# Altium schematic symbol library kmilo17pet-Maxim_Sensors.SchLib: 1172 symbols (part 44 of 61)
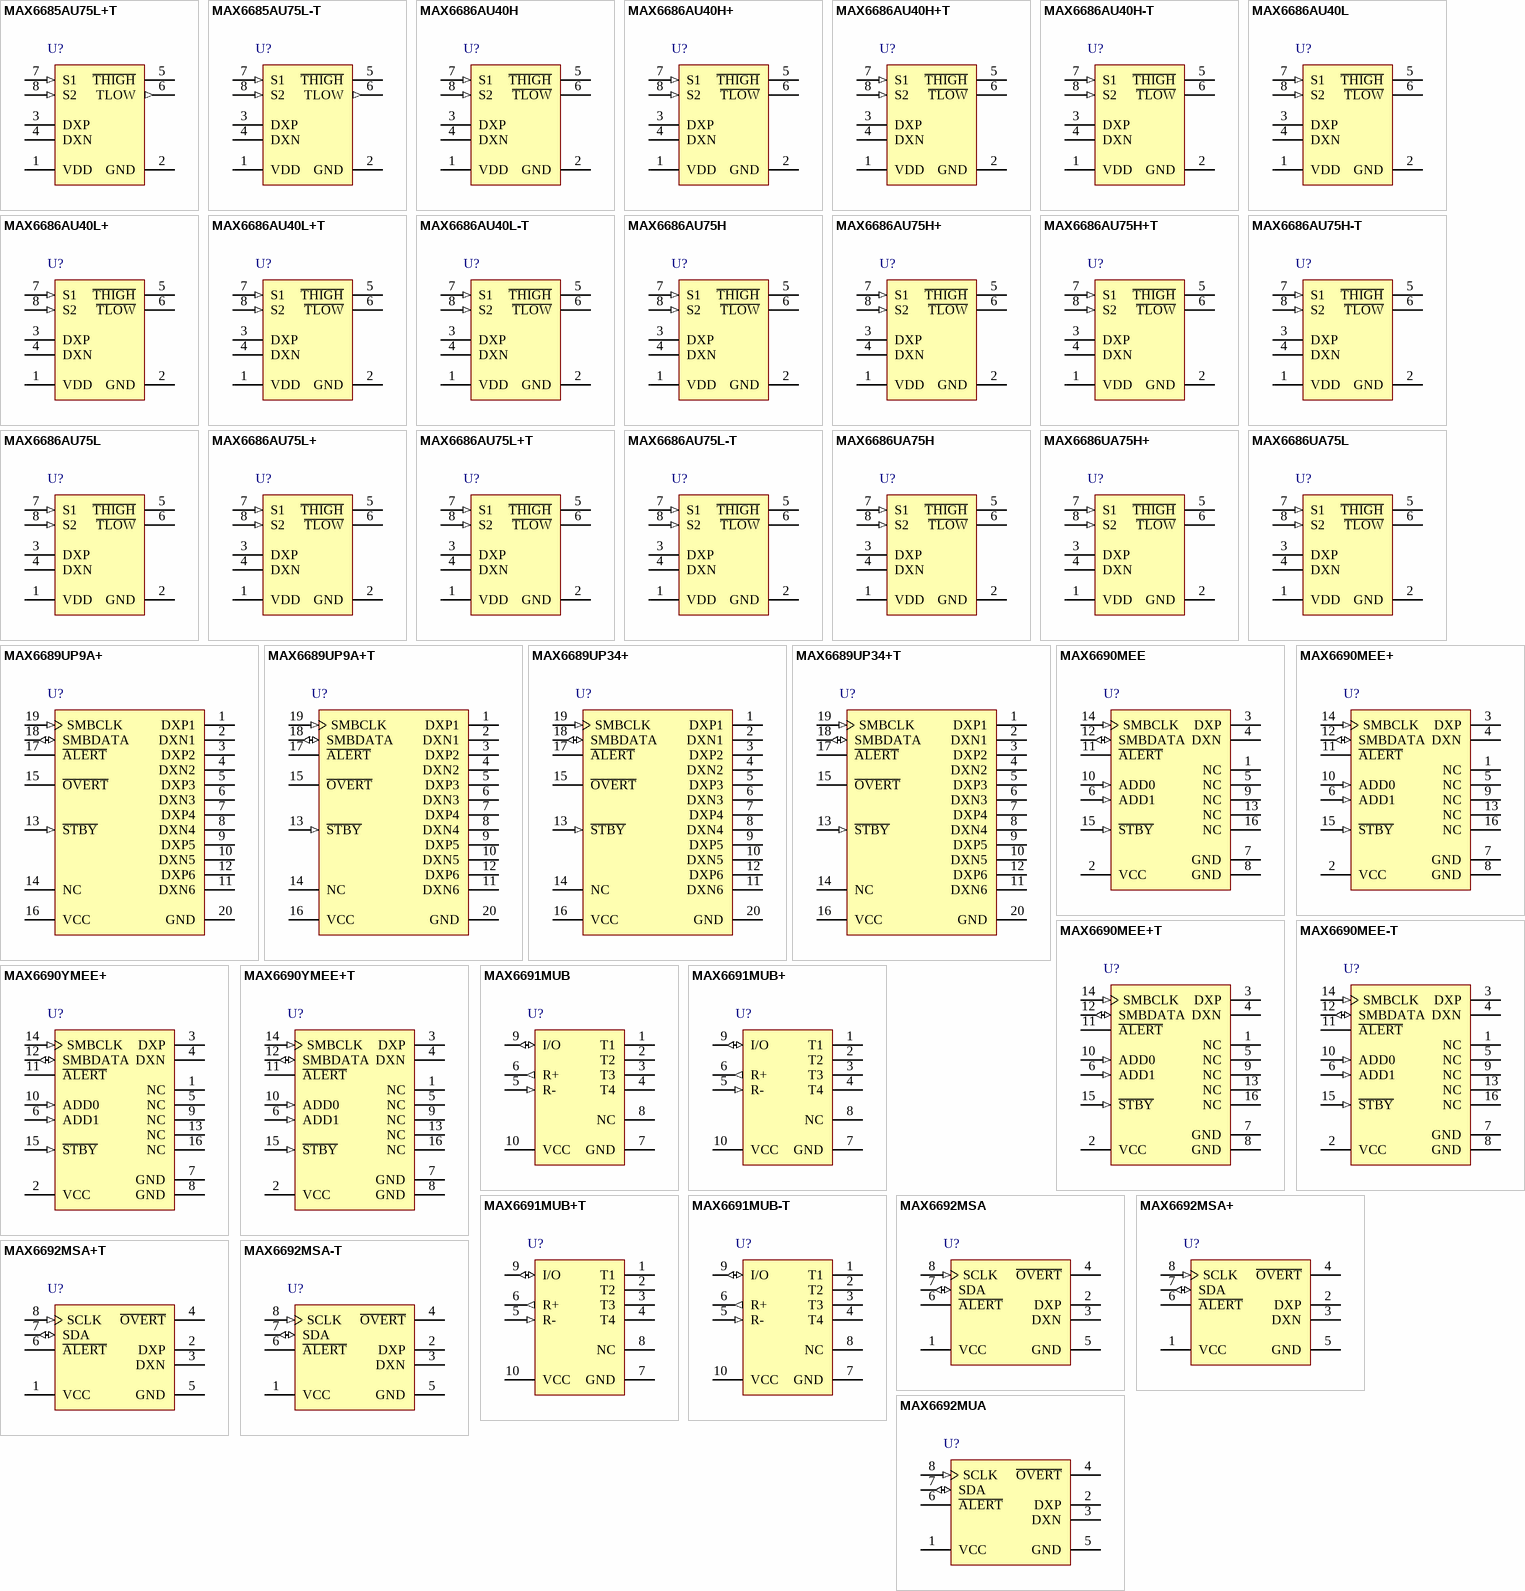
[diagram p76: symbols MAX6685AU75L+T to MAX6692MUA]

## MAX6689UP34+T
designator U?
Seven-Channel Temperature Monitor, 11 Bits Temperature Resolution, -40 to 125 degC, 20-Pin SOP (U20+2), Pb-Free, Tape and Reel; Generic Part Number: MAX6689; PartNumber: MAX6689UP34+T; Alarm Output: Alert, Overt; Functions: Dual Temperature Alarms, Multi-Channel Temperature Monitor ,Remote & Local Sensor; Interface: 2-Wire/I2C/SMBus; Parasite Pwr.: No; DatasheetVersion: Rev. 1; PackageVersion: Rev. L, 07/2010; PackageReference: U20+2; PackageDescription: 20-Pin Thin Shrink Small-Outline Package, Body 4.4 x 6.5 mm, Pitch 0.65 mm; Supplier 1: Digi-Key; Supplier Part Number 1: MAX6689UP34+T-ND; Supplier 2: Mouser; Supplier Part Number 2: 700-MAX6689UP34+T; Packing: Tape and Reel; Mounting Technology: Surface Mount; Code_JEDEC: MO-153; ComponentLink1Description: Manufacturer URL; ComponentLink1URL: http://www.maximintegrated.com/; ComponentLink2Description: Datasheet; ComponentLink2URL: http://datasheets.maximintegrated.com/en/ds/MAX6689.pdf; ComponentLink3Description: Package Specification; ComponentLink3URL: http://pdfserv.maximintegrated.com/package_dwgs/21-0066.PDF
footprint MAXM-U20+2_N (SOP, 20-Leads, Body 6.5x4.4mm, Pitch 0.65mm, IPC Medium Density)
footprint MAXM-U20+2_L (SOP, 20-Leads, Body 6.5x4.4mm, Pitch 0.65mm, IPC High Density)
footprint MAXM-U20+2_M (SOP, 20-Leads, Body 6.5x4.4mm, Pitch 0.65mm, IPC Low Density)
pins: 1 DXP1 "Combined Current Source and A/D Positive Input for Channel 1 Remote Diode. Connect to the anode of a remote-diode-connected temperature-sensing transistor. Leave floating or connect to VCC if no remote diode is used. Place a (See Datasheet)", 2 DXN1 "Cathode Input for Channel 1 Remote Diode. Connect the cathode of the channel 1 remote-diode-connected transistor to DXN1. Internally connected to GND.", 3 DXP2 "Combined Current Source and A/D Positive Input for Channel 2 Remote Diode. Connect to the anode of a remote-diode-connected temperature-sensing transistor. Leave floating or connect to VCC if no remote diode is used. Place a (See Datasheet)", 4 DXN2 "Cathode Input for Channel 2 Remote Diode. Connect the cathode of the channel 2 remote-diode-connected transistor to DXN2.", 5 DXP3 "Combined Current Source and A/D Positive Input for Channel 3 Remote Diode. Connect to the anode of a remote-diode-connected temperature-sensing transistor. Leave floating or connect to VCC if no remote diode is used. Place a (See Datasheet)", 6 DXN3 "Cathode Input for Channel 3 Remote Diode. Connect the cathode of the channel 3 remote-diode-connected transistor to DXN3.", 7 DXP4 "Combined Current Source and A/D Positive Input for Channel 4 Remote Diode. Connect to the anode of a remote-diode-connected temperature-sensing transistor. Leave floating or connect to VCC if no remote diode is used. Place a (See Datasheet)", 8 DXN4 "Cathode Input for Channel 4 Remote Diode. Connect the cathode of the channel 4 remote-diode-connected transistor to DXN4.", 9 DXP5 "Combined Current Source and A/D Positive Input for Channel 5 Remote Diode. Connect to the anode of a remote-diode-connected temperature-sensing transistor. Leave floating or connect to VCC if no remote diode is used. Place a (See Datasheet)", 10 DXN5 "Cathode Input for Channel 5 Remote Diode. Connect the cathode of the channel 5 remote-diode-connected transistor to DXN5.", 11 DXN6 "Cathode Input for Channel 6 Remote Diode. Connect the cathode of the channel 6 remote-diode-connected transistor to DXN6.", 12 DXP6 "Combined Current Source and A/D Positive Input for Channel 6 Remote Diode. Connect to the anode of a remote-diode-connected temperature-sensing transistor. Leave floating or connect to VCC if no remote diode is used. Place a (See Datasheet)", 13 ~{STBY} (in) "Active-Low Standby Input. Drive S\T\B\Y\ logic-low to place the MAX6636 in standby mode, or logic-high for operate mode. Temperature and threshold data are retained in standby mode.", 14 NC "No Connection. Must be connected to ground.", 15 ~{OVERT} (oc) "Overtemperature Active-Low, Open-Drain Output. O\V\E\R\T\ asserts low when the temperature of channels 1, 4, 5, and 6 exceeds the programmed threshold limit.", 16 VCC (power) "Supply Voltage Input. Bypass to GND with a 0.1µF capacitor.", 17 ~{ALERT} (oc) "SMBus Alert (Interrupt), Active-Low, Open-Drain Output. A\L\E\R\T\ asserts low when the temperature of any channel exceeds the programmed A\L\E\R\T\ threshold.", 18 SMBDATA (io) "SMBus Serial-Data Input/Output. Connect to a pullup resistor.", 19 SMBCLK (in) "SMBus Serial-Clock Input. Connect to a pullup resistor.", 20 GND (power) "Ground"

## MAX6690MEE
designator U?
2 degC Accurate Remote / Local Temperature Sensor with SMBus Serial Interface, 11 Bits Temperature Resolution, -55 to 125 degC, 16-Pin SOP (E16-1); Generic Part Number: MAX6690; PartNumber: MAX6690MEE; Alarm Output: Alert; Functions: Remote & Local Sensor; Interface: 2-Wire/I2C/SMBus; Multi Droppable: Yes; Parasite Pwr.: No; DatasheetVersion: Rev. 2; PackageVersion: Rev. K, 04/2012; PackageReference: E16-1; PackageDescription: 16-Pin Quarter Small-Outline Package (E16-1), Body 4.90 x 3.89 mm, Pitch 0.635 mm; Supplier 1: Mouser; Supplier Part Number 1: N/A; Mounting Technology: Surface Mount; Code_JEDEC: MO137; ComponentLink1Description: Manufacturer URL; ComponentLink1URL: http://www.maximintegrated.com/; ComponentLink2Description: Datasheet; ComponentLink2URL: http://datasheets.maximintegrated.com/en/ds/MAX6690.pdf; ComponentLink3Description: Package Specification; ComponentLink3URL: http://pdfserv.maximintegrated.com/package_dwgs/21-0055.PDF
footprint MAXM-E16-1_N (SOP, 16-Leads, Body 4.9x3.89mm, Pitch 0.635mm, IPC Medium Density)
footprint MAXM-E16-1_L (SOP, 16-Leads, Body 4.9x3.89mm, Pitch 0.635mm, IPC High Density)
footprint MAXM-E16-1_M (SOP, 16-Leads, Body 4.9x3.89mm, Pitch 0.635mm, IPC Low Density)
pins: 1 NC "No Connection. Not internally connected. May be used for PC board trace routing.", 2 VCC (power) "Supply Voltage Input. +3.0V to +5.5V. Bypass to GND with a 0.1uF capacitor. A 200ohm series resistor is recommended but not required for additional noise filtering.", 3 DXP "Combined Current Source and ADC Positive Input for Remote-Junction Channel. If a remotesensing junction is not used, connect DXP to DXN.", 4 DXN "Combined Current Sink and ADC Negative Input. DXN is internally biased to a diode voltage above ground.", 5 NC "No Connection. Not internally connected. May be used for PC board trace routing.", 6 ADD1 (in) "SMBus Slave Address Select Input. ADD0 and ADD1 are sampled upon power-up.", 7 GND (power) "Ground", 8 GND (power) "Ground", 9 NC "No Connection. Not internally connected. May be used for PC board trace routing.", 10 ADD0 (in) "SMBus Slave Address Select Input. ADD0 and ADD1 are sampled upon power-up.", 11 ~{ALERT} (oc) "SMBus Alert (Interrupt) Output. Open drain.", 12 SMBDATA (io) "SMBus Serial-Data Input/Output. Open drain.", 13 NC "No Connection. Not internally connected. May be used for PC board trace routing.", 14 SMBCLK (in) "SMBus Serial-Clock Input", 15 ~{STBY} (in) "Hardware Standby Input. Temperature and comparison threshold data are retained in standby mode. Low = standby mode, high = operating mode.", 16 NC "No Connection. Not internally connected. May be used for PC board trace routing."

## MAX6690MEE+
designator U?
2 degC Accurate Remote / Local Temperature Sensor with SMBus Serial Interface, 11 Bits Temperature Resolution, -55 to 125 degC, 16-Pin SOP (E16+1), Pb-Free; Generic Part Number: MAX6690; PartNumber: MAX6690MEE+; Alarm Output: Alert; Functions: Remote & Local Sensor; Interface: 2-Wire/I2C/SMBus; Multi Droppable: Yes; Parasite Pwr.: No; DatasheetVersion: Rev. 2; PackageVersion: Rev. K, 04/2012; PackageReference: E16+1; PackageDescription: 16-Pin Quarter Small-Outline Package (E16+1), Body 4.90 x 3.89 mm, Pitch 0.635 mm; Supplier 1: Digi-Key; Supplier Part Number 1: MAX6690MEE+-ND; Supplier 2: Mouser; Supplier Part Number 2: 700-MAX6690MEE; Mounting Technology: Surface Mount; Code_JEDEC: MO137; ComponentLink1Description: Manufacturer URL; ComponentLink1URL: http://www.maximintegrated.com/; ComponentLink2Description: Datasheet; ComponentLink2URL: http://datasheets.maximintegrated.com/en/ds/MAX6690.pdf; ComponentLink3Description: Package Specification; ComponentLink3URL: http://pdfserv.maximintegrated.com/package_dwgs/21-0055.PDF
footprint MAXM-E16+1_N (SOP, 16-Leads, Body 4.9x3.89mm, Pitch 0.635mm, IPC Medium Density)
footprint MAXM-E16+1_L (SOP, 16-Leads, Body 4.9x3.89mm, Pitch 0.635mm, IPC High Density)
footprint MAXM-E16+1_M (SOP, 16-Leads, Body 4.9x3.89mm, Pitch 0.635mm, IPC Low Density)
pins: 1 NC "No Connection. Not internally connected. May be used for PC board trace routing.", 2 VCC (power) "Supply Voltage Input. +3.0V to +5.5V. Bypass to GND with a 0.1uF capacitor. A 200ohm series resistor is recommended but not required for additional noise filtering.", 3 DXP "Combined Current Source and ADC Positive Input for Remote-Junction Channel. If a remotesensing junction is not used, connect DXP to DXN.", 4 DXN "Combined Current Sink and ADC Negative Input. DXN is internally biased to a diode voltage above ground.", 5 NC "No Connection. Not internally connected. May be used for PC board trace routing.", 6 ADD1 (in) "SMBus Slave Address Select Input. ADD0 and ADD1 are sampled upon power-up.", 7 GND (power) "Ground", 8 GND (power) "Ground", 9 NC "No Connection. Not internally connected. May be used for PC board trace routing.", 10 ADD0 (in) "SMBus Slave Address Select Input. ADD0 and ADD1 are sampled upon power-up.", 11 ~{ALERT} (oc) "SMBus Alert (Interrupt) Output. Open drain.", 12 SMBDATA (io) "SMBus Serial-Data Input/Output. Open drain.", 13 NC "No Connection. Not internally connected. May be used for PC board trace routing.", 14 SMBCLK (in) "SMBus Serial-Clock Input", 15 ~{STBY} (in) "Hardware Standby Input. Temperature and comparison threshold data are retained in standby mode. Low = standby mode, high = operating mode.", 16 NC "No Connection. Not internally connected. May be used for PC board trace routing."

## MAX6690MEE+T
designator U?
2 degC Accurate Remote / Local Temperature Sensor with SMBus Serial Interface, 11 Bits Temperature Resolution, -55 to 125 degC, 16-Pin SOP (E16+1), Pb-Free, Tape and Reel; Generic Part Number: MAX6690; PartNumber: MAX6690MEE+T; Alarm Output: Alert; Functions: Remote & Local Sensor; Interface: 2-Wire/I2C/SMBus; Multi Droppable: Yes; Parasite Pwr.: No; DatasheetVersion: Rev. 2; PackageVersion: Rev. K, 04/2012; PackageReference: E16+1; PackageDescription: 16-Pin Quarter Small-Outline Package (E16+1), Body 4.90 x 3.89 mm, Pitch 0.635 mm; Supplier 1: Digi-Key; Supplier Part Number 1: MAX6690MEE+TTR-ND; Supplier 2: Digi-Key; Supplier Part Number 2: MAX6690MEE+TCT-ND; Supplier 3: Digi-Key; Supplier Part Number 3: MAX6690MEE+TDKR-ND; Supplier 4: Mouser; Supplier Part Number 4: 700-MAX6690MEET; Packing: Tape and Reel; Mounting Technology: Surface Mount; Code_JEDEC: MO137; ComponentLink1Description: Manufacturer URL; ComponentLink1URL: http://www.maximintegrated.com/; ComponentLink2Description: Datasheet; ComponentLink2URL: http://datasheets.maximintegrated.com/en/ds/MAX6690.pdf; ComponentLink3Description: Package Specification; ComponentLink3URL: http://pdfserv.maximintegrated.com/package_dwgs/21-0055.PDF
footprint MAXM-E16+1_N (SOP, 16-Leads, Body 4.9x3.89mm, Pitch 0.635mm, IPC Medium Density)
footprint MAXM-E16+1_L (SOP, 16-Leads, Body 4.9x3.89mm, Pitch 0.635mm, IPC High Density)
footprint MAXM-E16+1_M (SOP, 16-Leads, Body 4.9x3.89mm, Pitch 0.635mm, IPC Low Density)
pins: 1 NC "No Connection. Not internally connected. May be used for PC board trace routing.", 2 VCC (power) "Supply Voltage Input. +3.0V to +5.5V. Bypass to GND with a 0.1uF capacitor. A 200ohm series resistor is recommended but not required for additional noise filtering.", 3 DXP "Combined Current Source and ADC Positive Input for Remote-Junction Channel. If a remotesensing junction is not used, connect DXP to DXN.", 4 DXN "Combined Current Sink and ADC Negative Input. DXN is internally biased to a diode voltage above ground.", 5 NC "No Connection. Not internally connected. May be used for PC board trace routing.", 6 ADD1 (in) "SMBus Slave Address Select Input. ADD0 and ADD1 are sampled upon power-up.", 7 GND (power) "Ground", 8 GND (power) "Ground", 9 NC "No Connection. Not internally connected. May be used for PC board trace routing.", 10 ADD0 (in) "SMBus Slave Address Select Input. ADD0 and ADD1 are sampled upon power-up.", 11 ~{ALERT} (oc) "SMBus Alert (Interrupt) Output. Open drain.", 12 SMBDATA (io) "SMBus Serial-Data Input/Output. Open drain.", 13 NC "No Connection. Not internally connected. May be used for PC board trace routing.", 14 SMBCLK (in) "SMBus Serial-Clock Input", 15 ~{STBY} (in) "Hardware Standby Input. Temperature and comparison threshold data are retained in standby mode. Low = standby mode, high = operating mode.", 16 NC "No Connection. Not internally connected. May be used for PC board trace routing."

## MAX6690MEE-T
designator U?
2 degC Accurate Remote / Local Temperature Sensor with SMBus Serial Interface, 11 Bits Temperature Resolution, -55 to 125 degC, 16-Pin SOP (E16-1), Tape and Reel; Generic Part Number: MAX6690; PartNumber: MAX6690MEE-T; Alarm Output: Alert; Functions: Remote & Local Sensor; Interface: 2-Wire/I2C/SMBus; Multi Droppable: Yes; Parasite Pwr.: No; DatasheetVersion: Rev. 2; PackageVersion: Rev. K, 04/2012; PackageReference: E16-1; PackageDescription: 16-Pin Quarter Small-Outline Package (E16-1), Body 4.90 x 3.89 mm, Pitch 0.635 mm; Supplier 1: Mouser; Supplier Part Number 1: N/A; Packing: Tape and Reel; Mounting Technology: Surface Mount; Code_JEDEC: MO137; ComponentLink1Description: Manufacturer URL; ComponentLink1URL: http://www.maximintegrated.com/; ComponentLink2Description: Datasheet; ComponentLink2URL: http://datasheets.maximintegrated.com/en/ds/MAX6690.pdf; ComponentLink3Description: Package Specification; ComponentLink3URL: http://pdfserv.maximintegrated.com/package_dwgs/21-0055.PDF
footprint MAXM-E16-1_N (SOP, 16-Leads, Body 4.9x3.89mm, Pitch 0.635mm, IPC Medium Density)
footprint MAXM-E16-1_L (SOP, 16-Leads, Body 4.9x3.89mm, Pitch 0.635mm, IPC High Density)
footprint MAXM-E16-1_M (SOP, 16-Leads, Body 4.9x3.89mm, Pitch 0.635mm, IPC Low Density)
pins: 1 NC "No Connection. Not internally connected. May be used for PC board trace routing.", 2 VCC (power) "Supply Voltage Input. +3.0V to +5.5V. Bypass to GND with a 0.1uF capacitor. A 200ohm series resistor is recommended but not required for additional noise filtering.", 3 DXP "Combined Current Source and ADC Positive Input for Remote-Junction Channel. If a remotesensing junction is not used, connect DXP to DXN.", 4 DXN "Combined Current Sink and ADC Negative Input. DXN is internally biased to a diode voltage above ground.", 5 NC "No Connection. Not internally connected. May be used for PC board trace routing.", 6 ADD1 (in) "SMBus Slave Address Select Input. ADD0 and ADD1 are sampled upon power-up.", 7 GND (power) "Ground", 8 GND (power) "Ground", 9 NC "No Connection. Not internally connected. May be used for PC board trace routing.", 10 ADD0 (in) "SMBus Slave Address Select Input. ADD0 and ADD1 are sampled upon power-up.", 11 ~{ALERT} (oc) "SMBus Alert (Interrupt) Output. Open drain.", 12 SMBDATA (io) "SMBus Serial-Data Input/Output. Open drain.", 13 NC "No Connection. Not internally connected. May be used for PC board trace routing.", 14 SMBCLK (in) "SMBus Serial-Clock Input", 15 ~{STBY} (in) "Hardware Standby Input. Temperature and comparison threshold data are retained in standby mode. Low = standby mode, high = operating mode.", 16 NC "No Connection. Not internally connected. May be used for PC board trace routing."

## MAX6690YMEE+
designator U?
2 degC Accurate Remote / Local Temperature Sensor with SMBus Serial Interface, 11 Bits Temperature Resolution, -55 to 125 degC, 16-Pin SOP (E16+1), Pb-Free; Generic Part Number: MAX6690; PartNumber: MAX6690YMEE+; Alarm Output: Alert; Functions: Remote & Local Sensor; Interface: 2-Wire/I2C/SMBus; Multi Droppable: Yes; Parasite Pwr.: No; DatasheetVersion: Rev. 2; PackageVersion: Rev. K, 04/2012; PackageReference: E16+1; PackageDescription: 16-Pin Quarter Small-Outline Package (E16+1), Body 4.90 x 3.89 mm, Pitch 0.635 mm; Supplier 1: Digi-Key; Supplier Part Number 1: MAX6690YMEE+-ND; Supplier 2: Mouser; Supplier Part Number 2: 700-MAX6690YMEE; Mounting Technology: Surface Mount; Code_JEDEC: MO137; ComponentLink1Description: Manufacturer URL; ComponentLink1URL: http://www.maximintegrated.com/; ComponentLink2Description: Datasheet; ComponentLink2URL: http://datasheets.maximintegrated.com/en/ds/MAX6690.pdf; ComponentLink3Description: Package Specification; ComponentLink3URL: http://pdfserv.maximintegrated.com/package_dwgs/21-0055.PDF
footprint MAXM-E16+1_N (SOP, 16-Leads, Body 4.9x3.89mm, Pitch 0.635mm, IPC Medium Density)
footprint MAXM-E16+1_L (SOP, 16-Leads, Body 4.9x3.89mm, Pitch 0.635mm, IPC High Density)
footprint MAXM-E16+1_M (SOP, 16-Leads, Body 4.9x3.89mm, Pitch 0.635mm, IPC Low Density)
pins: 1 NC "No Connection. Not internally connected. May be used for PC board trace routing.", 2 VCC (power) "Supply Voltage Input. +3.0V to +5.5V. Bypass to GND with a 0.1uF capacitor. A 200ohm series resistor is recommended but not required for additional noise filtering.", 3 DXP "Combined Current Source and ADC Positive Input for Remote-Junction Channel. If a remotesensing junction is not used, connect DXP to DXN.", 4 DXN "Combined Current Sink and ADC Negative Input. DXN is internally biased to a diode voltage above ground.", 5 NC "No Connection. Not internally connected. May be used for PC board trace routing.", 6 ADD1 (in) "SMBus Slave Address Select Input. ADD0 and ADD1 are sampled upon power-up.", 7 GND (power) "Ground", 8 GND (power) "Ground", 9 NC "No Connection. Not internally connected. May be used for PC board trace routing.", 10 ADD0 (in) "SMBus Slave Address Select Input. ADD0 and ADD1 are sampled upon power-up.", 11 ~{ALERT} (oc) "SMBus Alert (Interrupt) Output. Open drain.", 12 SMBDATA (io) "SMBus Serial-Data Input/Output. Open drain.", 13 NC "No Connection. Not internally connected. May be used for PC board trace routing.", 14 SMBCLK (in) "SMBus Serial-Clock Input", 15 ~{STBY} (in) "Hardware Standby Input. Temperature and comparison threshold data are retained in standby mode. Low = standby mode, high = operating mode.", 16 NC "No Connection. Not internally connected. May be used for PC board trace routing."

## MAX6690YMEE+T
designator U?
2 degC Accurate Remote / Local Temperature Sensor with SMBus Serial Interface, 11 Bits Temperature Resolution, -55 to 125 degC, 16-Pin SOP (E16+1), Pb-Free, Tape and Reel; Generic Part Number: MAX6690; PartNumber: MAX6690YMEE+T; Alarm Output: Alert; Functions: Remote & Local Sensor; Interface: 2-Wire/I2C/SMBus; Multi Droppable: Yes; Parasite Pwr.: No; DatasheetVersion: Rev. 2; PackageVersion: Rev. K, 04/2012; PackageReference: E16+1; PackageDescription: 16-Pin Quarter Small-Outline Package (E16+1), Body 4.90 x 3.89 mm, Pitch 0.635 mm; Supplier 1: Digi-Key; Supplier Part Number 1: MAX6690YMEE+T-ND; Supplier 2: Mouser; Supplier Part Number 2: 700-MAX6690YMEET; Packing: Tape and Reel; Mounting Technology: Surface Mount; Code_JEDEC: MO137; ComponentLink1Description: Manufacturer URL; ComponentLink1URL: http://www.maximintegrated.com/; ComponentLink2Description: Datasheet; ComponentLink2URL: http://datasheets.maximintegrated.com/en/ds/MAX6690.pdf; ComponentLink3Description: Package Specification; ComponentLink3URL: http://pdfserv.maximintegrated.com/package_dwgs/21-0055.PDF
footprint MAXM-E16+1_N (SOP, 16-Leads, Body 4.9x3.89mm, Pitch 0.635mm, IPC Medium Density)
footprint MAXM-E16+1_L (SOP, 16-Leads, Body 4.9x3.89mm, Pitch 0.635mm, IPC High Density)
footprint MAXM-E16+1_M (SOP, 16-Leads, Body 4.9x3.89mm, Pitch 0.635mm, IPC Low Density)
pins: 1 NC "No Connection. Not internally connected. May be used for PC board trace routing.", 2 VCC (power) "Supply Voltage Input. +3.0V to +5.5V. Bypass to GND with a 0.1uF capacitor. A 200ohm series resistor is recommended but not required for additional noise filtering.", 3 DXP "Combined Current Source and ADC Positive Input for Remote-Junction Channel. If a remotesensing junction is not used, connect DXP to DXN.", 4 DXN "Combined Current Sink and ADC Negative Input. DXN is internally biased to a diode voltage above ground.", 5 NC "No Connection. Not internally connected. May be used for PC board trace routing.", 6 ADD1 (in) "SMBus Slave Address Select Input. ADD0 and ADD1 are sampled upon power-up.", 7 GND (power) "Ground", 8 GND (power) "Ground", 9 NC "No Connection. Not internally connected. May be used for PC board trace routing.", 10 ADD0 (in) "SMBus Slave Address Select Input. ADD0 and ADD1 are sampled upon power-up.", 11 ~{ALERT} (oc) "SMBus Alert (Interrupt) Output. Open drain.", 12 SMBDATA (io) "SMBus Serial-Data Input/Output. Open drain.", 13 NC "No Connection. Not internally connected. May be used for PC board trace routing.", 14 SMBCLK (in) "SMBus Serial-Clock Input", 15 ~{STBY} (in) "Hardware Standby Input. Temperature and comparison threshold data are retained in standby mode. Low = standby mode, high = operating mode.", 16 NC "No Connection. Not internally connected. May be used for PC board trace routing."

## MAX6691MUB
designator U?
Four-Channel Thermistor Temperature-to-Pulse-Width Converter, -55 to 125 degC, 8-Pin SOP (U10-2); Generic Part Number: MAX6691; PartNumber: MAX6691MUB; Functions: Thermistor-to-Digital Converter; Interface: PWM; Parasite Pwr.: No; DatasheetVersion: Rev. 1; PackageVersion: Rev. L, 07/2008; PackageReference: U10-2; PackageDescription: 10-Pin Micro-MAX, Thin Shrink Small-Outline (U10-2), Body 3 x 3 mm, Pitch 0.5 mm; Supplier 1: Mouser; Supplier Part Number 1: N/A; Mounting Technology: Surface Mount; Code_JEDEC: MO-187; ComponentLink1Description: Manufacturer URL; ComponentLink1URL: http://www.maximintegrated.com/; ComponentLink2Description: Datasheet; ComponentLink2URL: http://datasheets.maximintegrated.com/en/ds/MAX6691.pdf; ComponentLink3Description: Package Specification; ComponentLink3URL: http://pdfserv.maximintegrated.com/package_dwgs/21-0061.PDF
footprint MAXM-U10-2_N (SOP, 10-Leads, Body 3x3mm, Pitch 0.5mm, IPC Medium Density)
footprint MAXM-U10-2_L (SOP, 10-Leads, Body 3x3mm, Pitch 0.5mm, IPC High Density)
footprint MAXM-U10-2_M (SOP, 10-Leads, Body 3x3mm, Pitch 0.5mm, IPC Low Density)
pins: 1 T1 "Thermistor 1. Connect to external thermistor 1.", 2 T2 "Thermistor 2. Connect to external thermistor 2.", 3 T3 "Thermistor 3. Connect to external thermistor 3.", 4 T4 "Thermistor 4. Connect to external thermistor 4.", 5 R- (in) "External Resistor Low Side. Connect REXT between R- and R+.", 6 R+ (out) "Reference Voltage Output. Connect REXT between R- and R+.", 7 GND (power) "Ground. Ground connection for MAX6691 and ground return for external thermistor(s).", 8 NC "No Connection. Do not make a connection to this pin.", 9 I/O (io) "I/O Connection to Microcontroller. Connect a 10k ohm pullup resistor from I/O pin to VCC.", 10 VCC (power) "Supply Voltage. Bypass VCC to GND with a capacitor of at least 0.1uF."

## MAX6691MUB+
designator U?
Four-Channel Thermistor Temperature-to-Pulse-Width Converter, -55 to 125 degC, 8-Pin SOP (U10+2), Pb-Free; Generic Part Number: MAX6691; PartNumber: MAX6691MUB+; Functions: Thermistor-to-Digital Converter; Interface: PWM; Parasite Pwr.: No; DatasheetVersion: Rev. 1; PackageVersion: Rev. L, 07/2008; PackageReference: U10+2; PackageDescription: 10-Pin Micro-MAX, Thin Shrink Small-Outline (U10+2), Body 3 x 3 mm, Pitch 0.5 mm; Supplier 1: Digi-Key; Supplier Part Number 1: MAX6691MUB+-ND; Supplier 2: Mouser; Supplier Part Number 2: 700-MAX6691MUB; Mounting Technology: Surface Mount; Code_JEDEC: MO-187; ComponentLink1Description: Manufacturer URL; ComponentLink1URL: http://www.maximintegrated.com/; ComponentLink2Description: Datasheet; ComponentLink2URL: http://datasheets.maximintegrated.com/en/ds/MAX6691.pdf; ComponentLink3Description: Package Specification; ComponentLink3URL: http://pdfserv.maximintegrated.com/package_dwgs/21-0061.PDF
footprint MAXM-U10+2_N (SOP, 10-Leads, Body 3x3mm, Pitch 0.5mm, IPC Medium Density)
footprint MAXM-U10+2_L (SOP, 10-Leads, Body 3x3mm, Pitch 0.5mm, IPC High Density)
footprint MAXM-U10+2_M (SOP, 10-Leads, Body 3x3mm, Pitch 0.5mm, IPC Low Density)
pins: 1 T1 "Thermistor 1. Connect to external thermistor 1.", 2 T2 "Thermistor 2. Connect to external thermistor 2.", 3 T3 "Thermistor 3. Connect to external thermistor 3.", 4 T4 "Thermistor 4. Connect to external thermistor 4.", 5 R- (in) "External Resistor Low Side. Connect REXT between R- and R+.", 6 R+ (out) "Reference Voltage Output. Connect REXT between R- and R+.", 7 GND (power) "Ground. Ground connection for MAX6691 and ground return for external thermistor(s).", 8 NC "No Connection. Do not make a connection to this pin.", 9 I/O (io) "I/O Connection to Microcontroller. Connect a 10k ohm pullup resistor from I/O pin to VCC.", 10 VCC (power) "Supply Voltage. Bypass VCC to GND with a capacitor of at least 0.1uF."

## MAX6691MUB+T
designator U?
Four-Channel Thermistor Temperature-to-Pulse-Width Converter, -55 to 125 degC, 8-Pin SOP (U10+2), Pb-Free, Tape and Reel; Generic Part Number: MAX6691; PartNumber: MAX6691MUB+T; Functions: Thermistor-to-Digital Converter; Interface: PWM; Parasite Pwr.: No; DatasheetVersion: Rev. 1; PackageVersion: Rev. L, 07/2008; PackageReference: U10+2; PackageDescription: 10-Pin Micro-MAX, Thin Shrink Small-Outline (U10+2), Body 3 x 3 mm, Pitch 0.5 mm; Supplier 1: Digi-Key; Supplier Part Number 1: MAX6691MUB+T-ND; Supplier 2: Mouser; Supplier Part Number 2: 700-MAX6691MUBT; Packing: Tape and Reel; Mounting Technology: Surface Mount; Code_JEDEC: MO-187; ComponentLink1Description: Manufacturer URL; ComponentLink1URL: http://www.maximintegrated.com/; ComponentLink2Description: Datasheet; ComponentLink2URL: http://datasheets.maximintegrated.com/en/ds/MAX6691.pdf; ComponentLink3Description: Package Specification; ComponentLink3URL: http://pdfserv.maximintegrated.com/package_dwgs/21-0061.PDF
footprint MAXM-U10+2_N (SOP, 10-Leads, Body 3x3mm, Pitch 0.5mm, IPC Medium Density)
footprint MAXM-U10+2_L (SOP, 10-Leads, Body 3x3mm, Pitch 0.5mm, IPC High Density)
footprint MAXM-U10+2_M (SOP, 10-Leads, Body 3x3mm, Pitch 0.5mm, IPC Low Density)
pins: 1 T1 "Thermistor 1. Connect to external thermistor 1.", 2 T2 "Thermistor 2. Connect to external thermistor 2.", 3 T3 "Thermistor 3. Connect to external thermistor 3.", 4 T4 "Thermistor 4. Connect to external thermistor 4.", 5 R- (in) "External Resistor Low Side. Connect REXT between R- and R+.", 6 R+ (out) "Reference Voltage Output. Connect REXT between R- and R+.", 7 GND (power) "Ground. Ground connection for MAX6691 and ground return for external thermistor(s).", 8 NC "No Connection. Do not make a connection to this pin.", 9 I/O (io) "I/O Connection to Microcontroller. Connect a 10k ohm pullup resistor from I/O pin to VCC.", 10 VCC (power) "Supply Voltage. Bypass VCC to GND with a capacitor of at least 0.1uF."

## MAX6691MUB-T
designator U?
Four-Channel Thermistor Temperature-to-Pulse-Width Converter, -55 to 125 degC, 8-Pin SOP (U10-2), Tape and Reel; Generic Part Number: MAX6691; PartNumber: MAX6691MUB-T; Functions: Thermistor-to-Digital Converter; Interface: PWM; Parasite Pwr.: No; DatasheetVersion: Rev. 1; PackageVersion: Rev. L, 07/2008; PackageReference: U10-2; PackageDescription: 10-Pin Micro-MAX, Thin Shrink Small-Outline (U10-2), Body 3 x 3 mm, Pitch 0.5 mm; Supplier 1: Mouser; Supplier Part Number 1: N/A; Packing: Tape and Reel; Mounting Technology: Surface Mount; Code_JEDEC: MO-187; ComponentLink1Description: Manufacturer URL; ComponentLink1URL: http://www.maximintegrated.com/; ComponentLink2Description: Datasheet; ComponentLink2URL: http://datasheets.maximintegrated.com/en/ds/MAX6691.pdf; ComponentLink3Description: Package Specification; ComponentLink3URL: http://pdfserv.maximintegrated.com/package_dwgs/21-0061.PDF
footprint MAXM-U10-2_N (SOP, 10-Leads, Body 3x3mm, Pitch 0.5mm, IPC Medium Density)
footprint MAXM-U10-2_L (SOP, 10-Leads, Body 3x3mm, Pitch 0.5mm, IPC High Density)
footprint MAXM-U10-2_M (SOP, 10-Leads, Body 3x3mm, Pitch 0.5mm, IPC Low Density)
pins: 1 T1 "Thermistor 1. Connect to external thermistor 1.", 2 T2 "Thermistor 2. Connect to external thermistor 2.", 3 T3 "Thermistor 3. Connect to external thermistor 3.", 4 T4 "Thermistor 4. Connect to external thermistor 4.", 5 R- (in) "External Resistor Low Side. Connect REXT between R- and R+.", 6 R+ (out) "Reference Voltage Output. Connect REXT between R- and R+.", 7 GND (power) "Ground. Ground connection for MAX6691 and ground return for external thermistor(s).", 8 NC "No Connection. Do not make a connection to this pin.", 9 I/O (io) "I/O Connection to Microcontroller. Connect a 10k ohm pullup resistor from I/O pin to VCC.", 10 VCC (power) "Supply Voltage. Bypass VCC to GND with a capacitor of at least 0.1uF."

## MAX6692MSA
designator U?
+ / -0.8 degC, SMBus-Compatible Remote / Local Temperature Sensor with Overtemperature Alarm, 10 Bits Temperature Resolution, -55 to 125 degC, 8-Pin SOIC (S8-4); Generic Part Number: MAX6692; PartNumber: MAX6692MSA; Alarm Output: Alert, Overt; Functions: Dual Temperature Alarms, Remote & Local Sensor; Interface: 2-Wire/I2C/SMBus; Parasite Pwr.: No; DatasheetVersion: Rev. 4; PackageVersion: Rev. D, 10/2012; PackageReference: S8-4; PackageDescription: 8-Pin Small-Outline IC, Narrow, Body 3.9 x 4.9 mm, Pitch 1.27 mm; Supplier 1: Mouser; Supplier Part Number 1: N/A; Mounting Technology: Surface Mount; Code_JEDEC: MS-012; ComponentLink1Description: Manufacturer URL; ComponentLink1URL: http://www.maximintegrated.com/; ComponentLink2Description: Datasheet; ComponentLink2URL: http://datasheets.maximintegrated.com/en/ds/MAX6648-MAX6692.pdf; ComponentLink3Description: Package Specification; ComponentLink3URL: http://pdfserv.maximintegrated.com/package_dwgs/21-0041.PDF
footprint MAXM-S8-4_N (SOIC, 8-Leads, Body 4.9x3.9mm, Pitch 1.27mm, IPC Medium Density)
footprint MAXM-S8-4_L (SOIC, 8-Leads, Body 4.9x3.9mm, Pitch 1.27mm, IPC High Density)
footprint MAXM-S8-4_M (SOIC, 8-Leads, Body 4.9x3.9mm, Pitch 1.27mm, IPC Low Density)
pins: 1 VCC (power) "Supply Voltage Input, 3V to 5.5V. Bypass VCC to GND with a 0.1uF capacitor. A 200ohm series resistor is recommended but not required for additional noise filtering", 2 DXP "Combined Remote-Diode Current Source and A/D Positive Input for Remote-Diode Channel. DO NOT LEAVE DXP UNCONNECTED; connect DXP to DXN if no remote diode is used. Place a 2200pF capacitor between DXP and DXN for noise (See Datasheet)", 3 DXN "Combined Remote-Diode Current Sink and A/D Negative Input. DXN is internally connected to ground.", 4 ~{OVERT} (oc) "Overtemperature Alert/Interrupt Output, Open Drain. O\V\E\R\T\ is logic low when the temperature is above the software-programmed threshold", 5 GND (power) "Ground", 6 ~{ALERT} (oc) "SMBus Alert (Interrupt) Output, Open Drain. A\L\E\R\T\ asserts when temperature exceeds limits (high or low temperature). A\L\E\R\T\ stays asserted until acknowledged by either reading the status register or by successfully (See Datasheet)", 7 SDA (io) "SMBus Serial-Data Input/Output, Open Drain", 8 SCLK (in) "SMBus Serial-Clock Input"

## MAX6692MSA+
designator U?
+ / -0.8 degC, SMBus-Compatible Remote / Local Temperature Sensor with Overtemperature Alarm, 10 Bits Temperature Resolution, -55 to 125 degC, 8-Pin SOIC (S8+4), Pb-Free; Generic Part Number: MAX6692; PartNumber: MAX6692MSA+; Alarm Output: Alert, Overt; Functions: Dual Temperature Alarms, Remote & Local Sensor; Interface: 2-Wire/I2C/SMBus; Parasite Pwr.: No; DatasheetVersion: Rev. 4; PackageVersion: Rev. D, 10/2012; PackageReference: S8+4; PackageDescription: 8-Pin Small-Outline IC, Narrow, Body 3.9 x 4.9 mm, Pitch 1.27 mm; Supplier 1: Digi-Key; Supplier Part Number 1: MAX6692MSA+-ND; Supplier 2: Mouser; Supplier Part Number 2: 700-MAX6692MSA; Mounting Technology: Surface Mount; Code_JEDEC: MS-012; ComponentLink1Description: Manufacturer URL; ComponentLink1URL: http://www.maximintegrated.com/; ComponentLink2Description: Datasheet; ComponentLink2URL: http://datasheets.maximintegrated.com/en/ds/MAX6648-MAX6692.pdf; ComponentLink3Description: Package Specification; ComponentLink3URL: http://pdfserv.maximintegrated.com/package_dwgs/21-0041.PDF
footprint MAXM-S8+4_N (SOIC, 8-Leads, Body 4.9x3.9mm, Pitch 1.27mm, IPC Medium Density)
footprint MAXM-S8+4_L (SOIC, 8-Leads, Body 4.9x3.9mm, Pitch 1.27mm, IPC High Density)
footprint MAXM-S8+4_M (SOIC, 8-Leads, Body 4.9x3.9mm, Pitch 1.27mm, IPC Low Density)
pins: 1 VCC (power) "Supply Voltage Input, 3V to 5.5V. Bypass VCC to GND with a 0.1uF capacitor. A 200ohm series resistor is recommended but not required for additional noise filtering", 2 DXP "Combined Remote-Diode Current Source and A/D Positive Input for Remote-Diode Channel. DO NOT LEAVE DXP UNCONNECTED; connect DXP to DXN if no remote diode is used. Place a 2200pF capacitor between DXP and DXN for noise (See Datasheet)", 3 DXN "Combined Remote-Diode Current Sink and A/D Negative Input. DXN is internally connected to ground.", 4 ~{OVERT} (oc) "Overtemperature Alert/Interrupt Output, Open Drain. O\V\E\R\T\ is logic low when the temperature is above the software-programmed threshold", 5 GND (power) "Ground", 6 ~{ALERT} (oc) "SMBus Alert (Interrupt) Output, Open Drain. A\L\E\R\T\ asserts when temperature exceeds limits (high or low temperature). A\L\E\R\T\ stays asserted until acknowledged by either reading the status register or by successfully (See Datasheet)", 7 SDA (io) "SMBus Serial-Data Input/Output, Open Drain", 8 SCLK (in) "SMBus Serial-Clock Input"

## MAX6692MSA+T
designator U?
+ / -0.8 degC, SMBus-Compatible Remote / Local Temperature Sensor with Overtemperature Alarm, 10 Bits Temperature Resolution, -55 to 125 degC, 8-Pin SOIC (S8+4), Pb-Free, Tape and Reel; Generic Part Number: MAX6692; PartNumber: MAX6692MSA+T; Alarm Output: Alert, Overt; Functions: Dual Temperature Alarms, Remote & Local Sensor; Interface: 2-Wire/I2C/SMBus; Parasite Pwr.: No; DatasheetVersion: Rev. 4; PackageVersion: Rev. D, 10/2012; PackageReference: S8+4; PackageDescription: 8-Pin Small-Outline IC, Narrow, Body 3.9 x 4.9 mm, Pitch 1.27 mm; Supplier 1: Digi-Key; Supplier Part Number 1: MAX6692MSA+T-ND; Supplier 2: Mouser; Supplier Part Number 2: 700-MAX6692MSAT; Packing: Tape and Reel; Mounting Technology: Surface Mount; Code_JEDEC: MS-012; ComponentLink1Description: Manufacturer URL; ComponentLink1URL: http://www.maximintegrated.com/; ComponentLink2Description: Datasheet; ComponentLink2URL: http://datasheets.maximintegrated.com/en/ds/MAX6648-MAX6692.pdf; ComponentLink3Description: Package Specification; ComponentLink3URL: http://pdfserv.maximintegrated.com/package_dwgs/21-0041.PDF
footprint MAXM-S8+4_N (SOIC, 8-Leads, Body 4.9x3.9mm, Pitch 1.27mm, IPC Medium Density)
footprint MAXM-S8+4_L (SOIC, 8-Leads, Body 4.9x3.9mm, Pitch 1.27mm, IPC High Density)
footprint MAXM-S8+4_M (SOIC, 8-Leads, Body 4.9x3.9mm, Pitch 1.27mm, IPC Low Density)
pins: 1 VCC (power) "Supply Voltage Input, 3V to 5.5V. Bypass VCC to GND with a 0.1uF capacitor. A 200ohm series resistor is recommended but not required for additional noise filtering", 2 DXP "Combined Remote-Diode Current Source and A/D Positive Input for Remote-Diode Channel. DO NOT LEAVE DXP UNCONNECTED; connect DXP to DXN if no remote diode is used. Place a 2200pF capacitor between DXP and DXN for noise (See Datasheet)", 3 DXN "Combined Remote-Diode Current Sink and A/D Negative Input. DXN is internally connected to ground.", 4 ~{OVERT} (oc) "Overtemperature Alert/Interrupt Output, Open Drain. O\V\E\R\T\ is logic low when the temperature is above the software-programmed threshold", 5 GND (power) "Ground", 6 ~{ALERT} (oc) "SMBus Alert (Interrupt) Output, Open Drain. A\L\E\R\T\ asserts when temperature exceeds limits (high or low temperature). A\L\E\R\T\ stays asserted until acknowledged by either reading the status register or by successfully (See Datasheet)", 7 SDA (io) "SMBus Serial-Data Input/Output, Open Drain", 8 SCLK (in) "SMBus Serial-Clock Input"

## MAX6692MSA-T
designator U?
+ / -0.8 degC, SMBus-Compatible Remote / Local Temperature Sensor with Overtemperature Alarm, 10 Bits Temperature Resolution, -55 to 125 degC, 8-Pin SOIC (S8-4), Tape and Reel; Generic Part Number: MAX6692; PartNumber: MAX6692MSA-T; Alarm Output: Alert, Overt; Functions: Dual Temperature Alarms, Remote & Local Sensor; Interface: 2-Wire/I2C/SMBus; Parasite Pwr.: No; DatasheetVersion: Rev. 4; PackageVersion: Rev. D, 10/2012; PackageReference: S8-4; PackageDescription: 8-Pin Small-Outline IC, Narrow, Body 3.9 x 4.9 mm, Pitch 1.27 mm; Supplier 1: Mouser; Supplier Part Number 1: N/A; Packing: Tape and Reel; Mounting Technology: Surface Mount; Code_JEDEC: MS-012; ComponentLink1Description: Manufacturer URL; ComponentLink1URL: http://www.maximintegrated.com/; ComponentLink2Description: Datasheet; ComponentLink2URL: http://datasheets.maximintegrated.com/en/ds/MAX6648-MAX6692.pdf; ComponentLink3Description: Package Specification; ComponentLink3URL: http://pdfserv.maximintegrated.com/package_dwgs/21-0041.PDF
footprint MAXM-S8-4_N (SOIC, 8-Leads, Body 4.9x3.9mm, Pitch 1.27mm, IPC Medium Density)
footprint MAXM-S8-4_L (SOIC, 8-Leads, Body 4.9x3.9mm, Pitch 1.27mm, IPC High Density)
footprint MAXM-S8-4_M (SOIC, 8-Leads, Body 4.9x3.9mm, Pitch 1.27mm, IPC Low Density)
pins: 1 VCC (power) "Supply Voltage Input, 3V to 5.5V. Bypass VCC to GND with a 0.1uF capacitor. A 200ohm series resistor is recommended but not required for additional noise filtering", 2 DXP "Combined Remote-Diode Current Source and A/D Positive Input for Remote-Diode Channel. DO NOT LEAVE DXP UNCONNECTED; connect DXP to DXN if no remote diode is used. Place a 2200pF capacitor between DXP and DXN for noise (See Datasheet)", 3 DXN "Combined Remote-Diode Current Sink and A/D Negative Input. DXN is internally connected to ground.", 4 ~{OVERT} (oc) "Overtemperature Alert/Interrupt Output, Open Drain. O\V\E\R\T\ is logic low when the temperature is above the software-programmed threshold", 5 GND (power) "Ground", 6 ~{ALERT} (oc) "SMBus Alert (Interrupt) Output, Open Drain. A\L\E\R\T\ asserts when temperature exceeds limits (high or low temperature). A\L\E\R\T\ stays asserted until acknowledged by either reading the status register or by successfully (See Datasheet)", 7 SDA (io) "SMBus Serial-Data Input/Output, Open Drain", 8 SCLK (in) "SMBus Serial-Clock Input"

## MAX6692MUA
designator U?
+ / - 0.8 degC, SMBus-Compatible Remote / Local Temperature Sensor with Overtemperature Alarm, 10 Bits Temperature Resolution, -55 to 125 degC, 8-Pin SOP (U8-1); Generic Part Number: MAX6692; PartNumber: MAX6692MUA; Alarm Output: Alert, Overt; Functions: Dual Temperature Alarms, Remote & Local Sensor; Interface: 2-Wire/I2C/SMBus; Parasite Pwr.: No; DatasheetVersion: Rev. 4; PackageVersion: Rev. L, 08/2009; PackageReference: U8-1; PackageDescription: 8-Pin Micro-MAX, Thin Shrink Small-Outline (U8-1), Body 3 x 3 mm, Pitch 0.65mm; Mounting Technology: Surface Mount; Code_JEDEC: MO-187; ComponentLink1Description: Manufacturer URL; ComponentLink1URL: http://www.maximintegrated.com/; ComponentLink2Description: Datasheet; ComponentLink2URL: http://datasheets.maximintegrated.com/en/ds/MAX6648-MAX6692.pdf; ComponentLink3Description: Package Specification; ComponentLink3URL: http://pdfserv.maximintegrated.com/package_dwgs/21-0036.PDF
footprint MAXM-U8-1_N (SOP, 8-Leads, Body 3x3mm, Pitch 0.65mm, IPC Medium Density)
footprint MAXM-U8-1_L (SOP, 8-Leads, Body 3x3mm, Pitch 0.65mm, IPC High Density)
footprint MAXM-U8-1_M (SOP, 8-Leads, Body 3x3mm, Pitch 0.65mm, IPC Low Density)
pins: 1 VCC (power) "Supply Voltage Input, 3V to 5.5V. Bypass VCC to GND with a 0.1uF capacitor. A 200ohm series resistor is recommended but not required for additional noise filtering", 2 DXP "Combined Remote-Diode Current Source and A/D Positive Input for Remote-Diode Channel. DO NOT LEAVE DXP UNCONNECTED; connect DXP to DXN if no remote diode is used. Place a 2200pF capacitor between DXP and DXN for noise (See Datasheet)", 3 DXN "Combined Remote-Diode Current Sink and A/D Negative Input. DXN is internally connected to ground.", 4 ~{OVERT} (oc) "Overtemperature Alert/Interrupt Output, Open Drain. O\V\E\R\T\ is logic low when the temperature is above the software-programmed threshold", 5 GND (power) "Ground", 6 ~{ALERT} (oc) "SMBus Alert (Interrupt) Output, Open Drain. A\L\E\R\T\ asserts when temperature exceeds limits (high or low temperature). A\L\E\R\T\ stays asserted until acknowledged by either reading the status register or by successfully (See Datasheet)", 7 SDA (io) "SMBus Serial-Data Input/Output, Open Drain", 8 SCLK (in) "SMBus Serial-Clock Input"

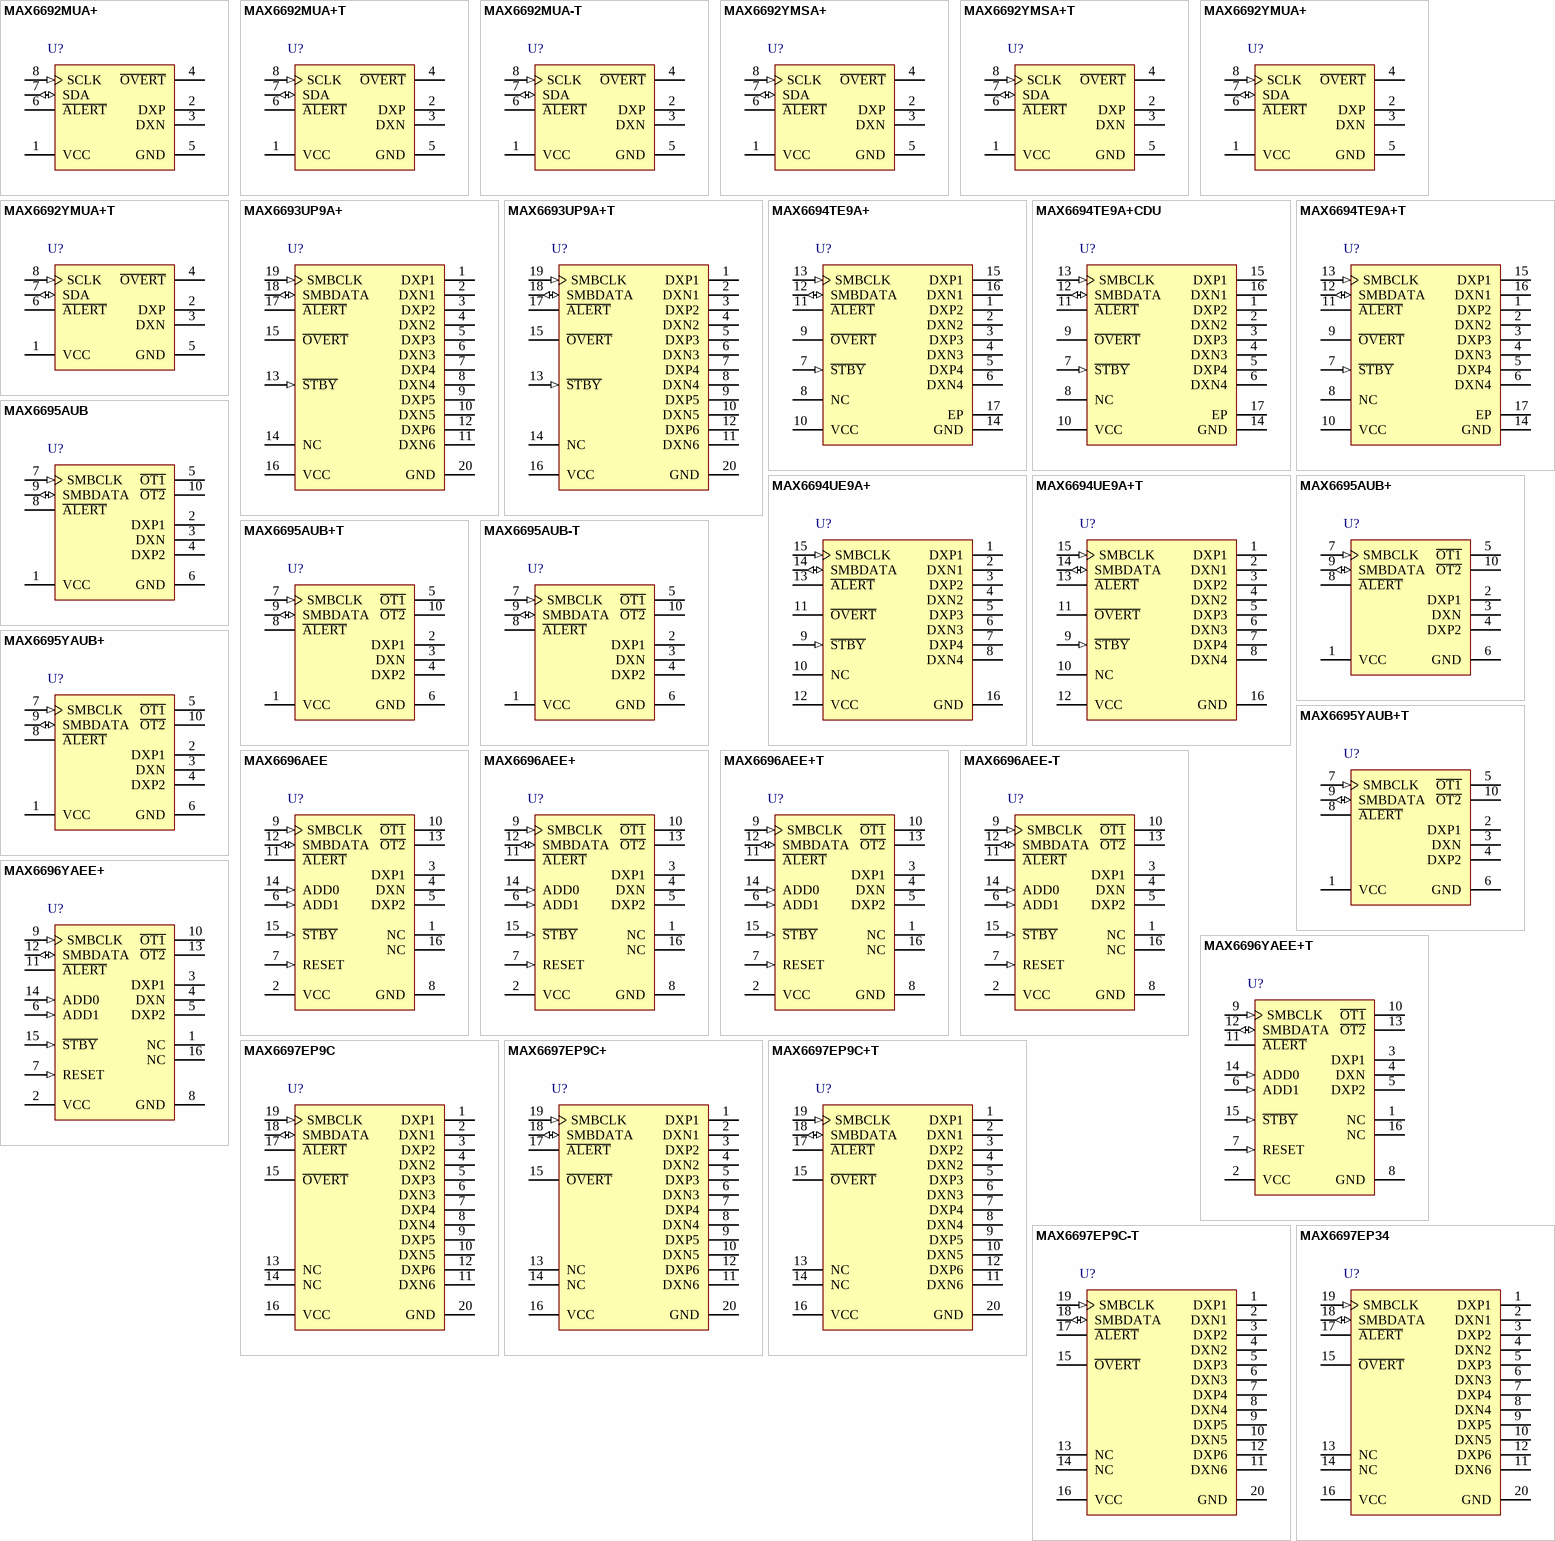
[diagram p25: symbols MAX6692MUA+ to MAX6697EP34]

## MAX6692MUA+
designator U?
+ / -0.8 degC, SMBus-Compatible Remote / Local Temperature Sensor with Overtemperature Alarm, 10 Bits Temperature Resolution, -55 to 125 degC, 8-Pin SOP (U8+1), Pb-Free; Generic Part Number: MAX6692; PartNumber: MAX6692MUA+; Alarm Output: Alert, Overt; Functions: Dual Temperature Alarms, Remote & Local Sensor; Interface: 2-Wire/I2C/SMBus; Parasite Pwr.: No; DatasheetVersion: Rev. 4; PackageVersion: Rev. L, 08/2009; PackageReference: U8+1; PackageDescription: 8-Pin Micro-MAX, Thin Shrink Small-Outline (U8+1), Body 3 x 3 mm, Pitch 0.65 mm; Supplier 1: Digi-Key; Supplier Part Number 1: MAX6692MUA+-ND; Supplier 2: Farnell; Supplier Part Number 2: 1673136; Mounting Technology: Surface Mount; Code_JEDEC: MO-187; ComponentLink1Description: Manufacturer URL; ComponentLink1URL: http://www.maximintegrated.com/; ComponentLink2Description: Datasheet; ComponentLink2URL: http://datasheets.maximintegrated.com/en/ds/MAX6648-MAX6692.pdf; ComponentLink3Description: Package Specification; ComponentLink3URL: http://pdfserv.maximintegrated.com/package_dwgs/21-0036.PDF
footprint MAXM-U8+1_N (SOP, 8-Leads, Body 3x3mm, Pitch 0.65mm, IPC Medium Density)
footprint MAXM-U8+1_L (SOP, 8-Leads, Body 3x3mm, Pitch 0.65mm, IPC High Density)
footprint MAXM-U8+1_M (SOP, 8-Leads, Body 3x3mm, Pitch 0.65mm, IPC Low Density)
pins: 1 VCC (power) "Supply Voltage Input, 3V to 5.5V. Bypass VCC to GND with a 0.1uF capacitor. A 200ohm series resistor is recommended but not required for additional noise filtering", 2 DXP "Combined Remote-Diode Current Source and A/D Positive Input for Remote-Diode Channel. DO NOT LEAVE DXP UNCONNECTED; connect DXP to DXN if no remote diode is used. Place a 2200pF capacitor between DXP and DXN for noise (See Datasheet)", 3 DXN "Combined Remote-Diode Current Sink and A/D Negative Input. DXN is internally connected to ground.", 4 ~{OVERT} (oc) "Overtemperature Alert/Interrupt Output, Open Drain. O\V\E\R\T\ is logic low when the temperature is above the software-programmed threshold", 5 GND (power) "Ground", 6 ~{ALERT} (oc) "SMBus Alert (Interrupt) Output, Open Drain. A\L\E\R\T\ asserts when temperature exceeds limits (high or low temperature). A\L\E\R\T\ stays asserted until acknowledged by either reading the status register or by successfully (See Datasheet)", 7 SDA (io) "SMBus Serial-Data Input/Output, Open Drain", 8 SCLK (in) "SMBus Serial-Clock Input"

## MAX6692MUA+T
designator U?
+ / -0.8 degC, SMBus-Compatible Remote / Local Temperature Sensor with Overtemperature Alarm, 10 Bits Temperature Resolution, -55 to 125 degC, 8-Pin SOP (U8+1), Pb-Free, Tape and Reel; Generic Part Number: MAX6692; PartNumber: MAX6692MUA+T; Alarm Output: Alert, Overt; Functions: Dual Temperature Alarms, Remote & Local Sensor; Interface: 2-Wire/I2C/SMBus; Parasite Pwr.: No; DatasheetVersion: Rev. 4; PackageVersion: Rev. L, 08/2009; PackageReference: U8+1; PackageDescription: 8-Pin Micro-MAX, Thin Shrink Small-Outline (U8+1), Body 3 x 3 mm, Pitch 0.65 mm; Supplier 1: Digi-Key; Supplier Part Number 1: MAX6692MUA+TTR-ND; Supplier 2: Digi-Key; Supplier Part Number 2: MAX6692MUA+TCT-ND; Supplier 3: Digi-Key; Supplier Part Number 3: MAX6692MUA+TDKR-ND; Packing: Tape and Reel; Mounting Technology: Surface Mount; Code_JEDEC: MO-187; ComponentLink1Description: Manufacturer URL; ComponentLink1URL: http://www.maximintegrated.com/; ComponentLink2Description: Datasheet; ComponentLink2URL: http://datasheets.maximintegrated.com/en/ds/MAX6648-MAX6692.pdf; ComponentLink3Description: Package Specification; ComponentLink3URL: http://pdfserv.maximintegrated.com/package_dwgs/21-0036.PDF
footprint MAXM-U8+1_N (SOP, 8-Leads, Body 3x3mm, Pitch 0.65mm, IPC Medium Density)
footprint MAXM-U8+1_L (SOP, 8-Leads, Body 3x3mm, Pitch 0.65mm, IPC High Density)
footprint MAXM-U8+1_M (SOP, 8-Leads, Body 3x3mm, Pitch 0.65mm, IPC Low Density)
pins: 1 VCC (power) "Supply Voltage Input, 3V to 5.5V. Bypass VCC to GND with a 0.1uF capacitor. A 200ohm series resistor is recommended but not required for additional noise filtering", 2 DXP "Combined Remote-Diode Current Source and A/D Positive Input for Remote-Diode Channel. DO NOT LEAVE DXP UNCONNECTED; connect DXP to DXN if no remote diode is used. Place a 2200pF capacitor between DXP and DXN for noise (See Datasheet)", 3 DXN "Combined Remote-Diode Current Sink and A/D Negative Input. DXN is internally connected to ground.", 4 ~{OVERT} (oc) "Overtemperature Alert/Interrupt Output, Open Drain. O\V\E\R\T\ is logic low when the temperature is above the software-programmed threshold", 5 GND (power) "Ground", 6 ~{ALERT} (oc) "SMBus Alert (Interrupt) Output, Open Drain. A\L\E\R\T\ asserts when temperature exceeds limits (high or low temperature). A\L\E\R\T\ stays asserted until acknowledged by either reading the status register or by successfully (See Datasheet)", 7 SDA (io) "SMBus Serial-Data Input/Output, Open Drain", 8 SCLK (in) "SMBus Serial-Clock Input"

## MAX6692MUA-T
designator U?
+ / - 0.8 degC, SMBus-Compatible Remote / Local Temperature Sensor with Overtemperature Alarm, 10 Bits Temperature Resolution, -55 to 125 degC, 8-Pin SOP (U8-1), Tape and Reel; Generic Part Number: MAX6692; PartNumber: MAX6692MUA-T; Alarm Output: Alert, Overt; Functions: Dual Temperature Alarms, Remote & Local Sensor; Interface: 2-Wire/I2C/SMBus; Parasite Pwr.: No; DatasheetVersion: Rev. 4; PackageVersion: Rev. L, 08/2009; PackageReference: U8-1; PackageDescription: 8-Pin Micro-MAX, Thin Shrink Small-Outline (U8-1), Body 3 x 3 mm, Pitch 0.65mm; Packing: Tape and Reel; Mounting Technology: Surface Mount; Code_JEDEC: MO-187; ComponentLink1Description: Manufacturer URL; ComponentLink1URL: http://www.maximintegrated.com/; ComponentLink2Description: Datasheet; ComponentLink2URL: http://datasheets.maximintegrated.com/en/ds/MAX6648-MAX6692.pdf; ComponentLink3Description: Package Specification; ComponentLink3URL: http://pdfserv.maximintegrated.com/package_dwgs/21-0036.PDF
footprint MAXM-U8-1_N (SOP, 8-Leads, Body 3x3mm, Pitch 0.65mm, IPC Medium Density)
footprint MAXM-U8-1_L (SOP, 8-Leads, Body 3x3mm, Pitch 0.65mm, IPC High Density)
footprint MAXM-U8-1_M (SOP, 8-Leads, Body 3x3mm, Pitch 0.65mm, IPC Low Density)
pins: 1 VCC (power) "Supply Voltage Input, 3V to 5.5V. Bypass VCC to GND with a 0.1uF capacitor. A 200ohm series resistor is recommended but not required for additional noise filtering", 2 DXP "Combined Remote-Diode Current Source and A/D Positive Input for Remote-Diode Channel. DO NOT LEAVE DXP UNCONNECTED; connect DXP to DXN if no remote diode is used. Place a 2200pF capacitor between DXP and DXN for noise (See Datasheet)", 3 DXN "Combined Remote-Diode Current Sink and A/D Negative Input. DXN is internally connected to ground.", 4 ~{OVERT} (oc) "Overtemperature Alert/Interrupt Output, Open Drain. O\V\E\R\T\ is logic low when the temperature is above the software-programmed threshold", 5 GND (power) "Ground", 6 ~{ALERT} (oc) "SMBus Alert (Interrupt) Output, Open Drain. A\L\E\R\T\ asserts when temperature exceeds limits (high or low temperature). A\L\E\R\T\ stays asserted until acknowledged by either reading the status register or by successfully (See Datasheet)", 7 SDA (io) "SMBus Serial-Data Input/Output, Open Drain", 8 SCLK (in) "SMBus Serial-Clock Input"